# EAGLE library part MAX9918 (library LARS_409_MC3)
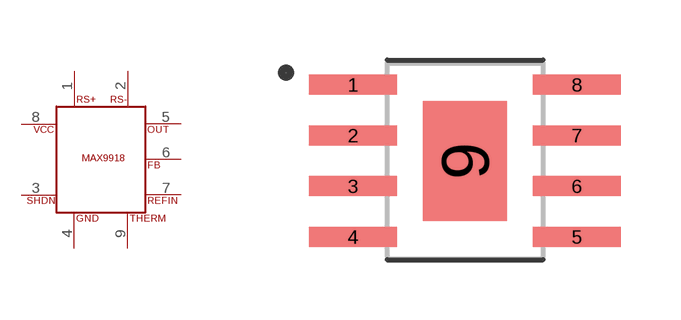
[diagram p13: symbol with the pads of HSOIC8; footprint HSOIC8]

Designator prefix U

## MAX9918  [HSOIC8]
1  RS+
2  RS-
3  SHDN
4  GND
5  OUT
6  FB
7  REFIN
8  VCC
9  THERM

## Footprint HSOIC8 (pad centres in mm)
8-SOIC, 1.27 mm pitch, 6.00 mm span, 4.90 X 3.90 X 1.70 mm body, 3.00 X 2.30 mm thermal pad 8-pin SOIC package with 1.27 mm pitch, 6.00 mm span with body size 4.90 X 3.90 X 1.70 mm and thermal pad size 3.00 X 2.30 mm
smd 2.2 x 0.5: 1 -2.8,1.905; 2 -2.8,0.635; 3 -2.8,-0.635; 4 -2.8,-1.905; 5 2.8,-1.905; 6 2.8,-0.635; 7 2.8,0.635; 8 2.8,1.905
smd 2.1 x 3: 9 0,0